# Altium schematic symbol library 2020-12-21_00-09-02.SchLib: 2 symbols
Pins are listed as number, name and electrical type; pins without a type are passive.

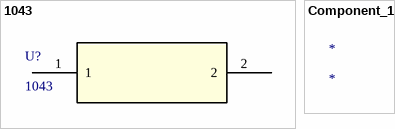
[diagram p0: symbols 1043 to Component_1]

## 1043
designator U?
No Description Available; Vendor: Keystone Electronics; Built_By: EMA_Cory; SourceLibrary: Keystone Electronics_Complete_2020-01-22; Manufacturer_Part_Number: 1043; Copyright: Copyright (C) 2018 Accelerated Designs. All rights reserved; RefDes: RefDes; Type: DEV
footprint 1043_KEY
pins: 1, 2

## Component_1
designator *